# Altium schematic symbol library 2020-03-23_14-31-02.SchLib: 2 symbols
Pins are listed as number, name and electrical type; pins without a type are passive.

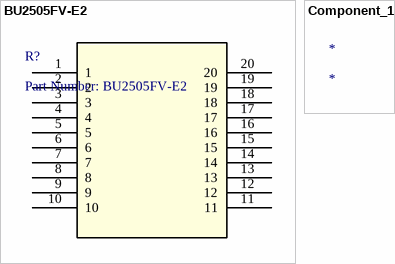
[diagram p0: symbols BU2505FV-E2 to Component_1]

## BU2505FV-E2
designator R?, comment Part Number: BU2505FV-E2
No Description Available; Vendor: ROHM Semiconductor; Built_By: EMA_Matt; Manufacturer_Part_Number: BU2505FV-E2; Copyright: Copyright (C) 2018 Accelerated Designs. All rights reserved; RefDes: RefDes; Type: DEV; Value: Value
footprint BU2505
pins: 1, 2, 3, 4, 5, 6, 7, 8, 9, 10, 11, 12, 13, 14, 15, 16, 17, 18, 19, 20

## Component_1
designator *